# EAGLE library part 610X1621121 (library Board-to-Board (rev18a))
WR-PHD 2.54mm Dual SMT Pin Header, 16 Pins =>Code : Con_BTB_PHD_2.54_2_610x1621121(packageing:x = 0: Tube x = 3: Tape & Reel with Cap; 300 pcs/Reel) <http://katalog.we-online.de/media/images/eican/Con_BTB_PHD_2.54_2_6100xx21121_pf2.jpg> 6100xx21121 Details see: http://katalog.we-online.de/en/em/610_0xx_211_21 6103xx21121 Details see: http://katalog.we-online.de/en/em/PHD_2_54_SMT_DUAL_PIN_HEADER_REEL_6103XX21121 2014 (C) Würth Elektronik
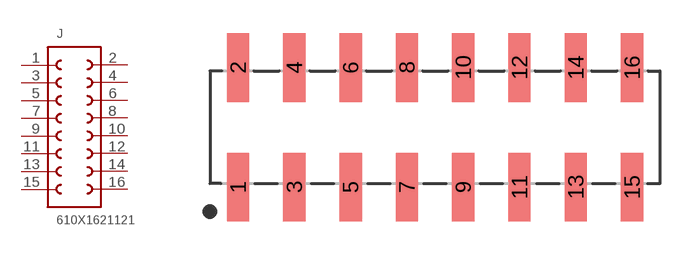
[diagram p78: symbol with the pads of 610X1621121; footprint 610X1621121]

Designator prefix J

## 610X1621121  [610X1621121]
1  1  pas
2  16  pas
3  2  pas
4  15  pas
5  3  pas
6  14  pas
7  4  pas
8  13  pas
9  5  pas
10  12  pas
11  6  pas
12  11  pas
13  7  pas
14  10  pas
15  8  pas
16  9  pas

## Footprint 610X1621121 (pad centres in mm)
WR-PHD 2.54mm Dual SMT Pin Header, 16 Pins
smd 1 x 3.1: 1 -8.89,-2.7; 2 -8.89,2.7; 3 -6.35,-2.7; 4 -6.35,2.7; 5 -3.81,-2.7; 6 -3.81,2.7; 7 -1.27,-2.7; 8 -1.27,2.7; 9 1.27,-2.7; 10 1.27,2.7; 11 3.81,-2.7; 12 3.81,2.7; 13 6.35,-2.7; 14 6.35,2.7; 15 8.89,-2.7; 16 8.89,2.7